# Altium footprint library airu-board.PCBLIB: 118 footprints (part 8 of 8)
Each footprint in its own frame and in the unit in brackets; x right, y up, seen from the top. Pads: shape width x height; smd on the part's side, far side on the other; paste and mask are expansions set on the pad; w line width, h text height; cw(c..) or ccw(c..) is an arc to the next point about the centre after c.
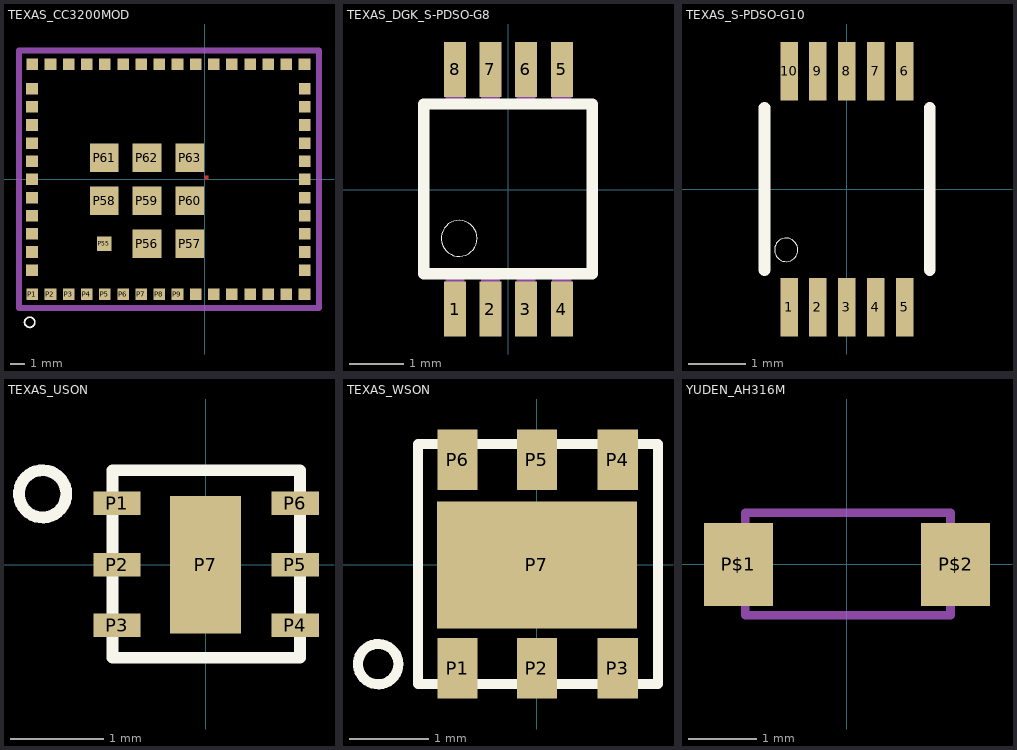
[diagram p7: the footprints below, top view; thin cyan lines are the x and y axes]

## TEXAS_CC3200MOD [mil]
pads (63):
  rect 32x32 smd: P1(-475,-316.93) P2(-425,-316.93) P3(-375,-316.93) P4(-325,-316.93) P5(-275,-316.93) P6(-225,-316.93) P7(-175,-316.93) P8(-125,-316.93) P9(-75,-316.93) P10(-25,-316.93) P11(25,-316.93) P12(75,-316.93) P13(125,-316.93) P14(175,-316.93) P15(225,-316.93) P16(275,-316.93) P17(276,-250) P18(276,-200) P19(276,-150) P20(276,-100) P21(276,-50) P22(276,0) P23(276,50) P24(276,100) P25(276,150) P26(276,200) P27(276,250) P28(275,317) P29(225,317) P30(175,317) P31(125,317) P32(75,317) P33(25,317) P34(-25,317) P35(-75,317) P36(-125,317) P37(-175,317) P38(-225,317) P39(-275,317) P40(-325,317) P41(-375,317) P42(-425,317) P43(-475,317) P44(-475.98,250) P45(-475.98,200) P46(-475.98,150) P47(-475.98,100) P48(-475.98,50) P49(-475.98,0) P50(-475.98,-50) P51(-475.98,-100) P52(-475.98,-150) P53(-475.98,-200) P54(-475.98,-250)
  rect 40x40 smd: P55(-277.17,-177.17)
  rect 79x79 smd: P56(-159.06,-177.17) P57(-40.94,-177.17) P58(-277.17,-59.06) P59(-159.06,-59.06) P60(-40.94,-59.06) P61(-277.17,60) P62(-159.06,60) P63(-40.94,60)
Top Layer:
  region: 0,0 10,0 10,10 0,10
Top Overlay:
  circle w5: c-482.28,-393.7 r14
Bottom Solder:
  region: 0,0 10,0 10,10 0,10
Mechanical 13:
  lines w16: -511.81,-354.33 315,-354.33 315,355 -511.81,355 -511.81,-354.33
  text "CC3200MOD" at -218.11,-439.37 h56.1

## TEXAS_DGK_S-PDSO-G8 [mil]
pads (8):
  rect 16x40 smd: 1(-38.39,-86.61) 2(-12.8,-86.61) 3(13,-86.61) 4(39,-86.61) 5(39,87) 6(13,87) 7(-12.8,87) 8(-38.39,87)
Top Overlay:
  circle w0: c-35.43,-35.43 r13
  lines w8: -61.02,-61.02 61,-61.02 61,62 -61.02,62 -61.02,-61.02
Top Solder:
  rectangle: -47.24,-108.27 -29.53,-64.96
  rectangle: -21.65,-108.27 -3.94,-64.96
  rectangle: 4,-108.27 22,-64.96
  rectangle: 30,-108.27 48,-64.96
  region: 48,109 30,109 30,65 48,65
  region: 22,109 4,109 4,65 22,65
  region: -3.94,109 -21.65,109 -21.65,65 -3.94,65
  region: -29.53,109 -47.24,109 -47.24,65 -29.53,65
Mechanical 16:
  rectangle: -45.28,-98.43 -31.5,-63.98
  rectangle: -19.68,-98.43 -5.91,-63.98
  rectangle: 6,-98.43 20,-63.98
  rectangle: 32,-98.43 46,-63.98
  region: 46,99 32,99 32,64 46,64
  region: 20,99 6,99 6,64 20,64
  region: -5.91,99 -19.68,99 -19.69,64 -5.91,64
  region: -31.5,99 -45.28,99 -45.28,64 -31.5,64

## TEXAS_S-PDSO-G10 [mil]
pads (10):
  rect 12x40 smd: 1(-39.37,-80.71) 2(-19.68,-80.71) 3(0,-80.71) 4(20,-80.71) 5(40,-80.71) 6(40,81) 7(20,81) 8(0,81) 9(-19.68,81) 10(-39.37,81)
Top Overlay:
  circle w0: c-41.34,-41.34 r8
  lines w8: -56.1,-55.12 -56.1,56 ; 57,-55.12 57,56
Top Paste:
  rectangle: -44.29,-98.43 -34.45,-63.98
  rectangle: -24.61,-98.43 -14.76,-63.98
  rectangle: -4.92,-98.43 5,-63.98
  rectangle: 15,-98.43 25,-63.98
  rectangle: 35,-98.43 45,-63.98
  region: 45,99 35,99 35,64 45,64
  region: 25,99 15,99 15,64 25,64
  region: 5,99 -4.92,99 -4.92,64 5,64
  region: -14.76,99 -24.61,99 -24.61,64 -14.76,64
  region: -34.45,99 -44.29,99 -44.29,64 -34.45,64
Top Solder:
  rectangle: -47.24,-102.36 -31.5,-59.06
  rectangle: -27.56,-102.36 -11.81,-59.06
  rectangle: -7.87,-102.36 8,-59.06
  rectangle: 12,-102.36 28,-59.06
  rectangle: 32,-102.36 48,-59.06
  region: 48,103 32,103 32,60 48,60
  region: 28,103 12,103 12,60 28,60
  region: 8,103 -7.87,103 -7.87,60 8,60
  region: -11.81,103 -27.56,103 -27.56,60 -11.81,60
  region: -31.5,103 -47.24,103 -47.24,60 -31.5,60

## TEXAS_USON [mil]
pads (7):
  rect 20x10 smd: P1(-37.4,26) P2(-37.4,0) P3(-37.4,-25.59) P4(38,-25.59) P5(38,0) P6(38,26)
  rect 30x58 smd: P7(0,0)
Top Overlay:
  circle w5: c-68.9,30 r10
  lines w5: -39.37,-39.37 40,-39.37 40,40 -39.37,40 -39.37,-39.37

## TEXAS_WSON [mil]
pads (7):
  rect 20x30 smd: P1(-39.37,-51.18) P2(0,-51.18) P3(40,-51.18) P4(40,52) P5(0,52) P6(-39.37,52)
  rect 99x63 smd: P7(0,0)
Top Overlay:
  circle w5: c-78.74,-49.21 r10
  lines w5: -59.06,-59.06 60,-59.06 60,60 -59.06,60 -59.06,-59.06

## YUDEN_AH316M [mil]
pads (2):
  rect 40x48 smd: P$1(-62.99,0) P$2(63,0)
Mechanical 13:
  lines w5: -59.06,-29.53 60,-29.53 60,30 -59.06,30 -59.06,-29.53